# EAGLE library part MCP2200-I/SO (library equinox)
USB 2.0 to UART Protocol Converter with GPIO,20SOIC
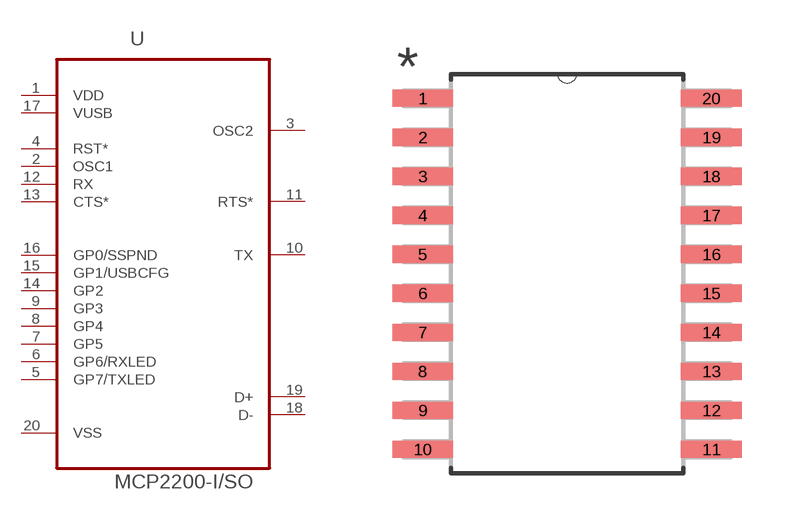
[diagram p6: symbol with the pads of SOIC127P1034X264-20N; footprint SOIC127P1034X264-20N]

Designator prefix -

## MCP2200-I/SO (MPN: MCP2200-I/SO; OC_FARNELL: 1781148; OC_NEWARK: 52R9947; PACKAGE: SOIC-20; SUPPLIER: Microchip)  [SOIC127P1034X264-20N]
1  VDD  pwr
2  OSC1  in
3  OSC2  out
4  RST*  in
5  GP7/TXLED
6  GP6/RXLED
7  GP5
8  GP4
9  GP3
10  TX  out
11  RTS*  out
12  RX  in
13  CTS*  in
14  GP2
15  GP1/USBCFG
16  GP0/SSPND
17  VUSB  pwr
18  D-
19  D+
20  VSS  pwr

## Footprint SOIC127P1034X264-20N (pad centres in mm)
smd 1.981 x 0.559: 1 -4.699,5.715; 2 -4.699,4.445; 3 -4.699,3.175; 4 -4.699,1.905; 5 -4.699,0.635; 6 -4.699,-0.635; 7 -4.699,-1.905; 8 -4.699,-3.175; 9 -4.699,-4.445; 10 -4.699,-5.715; 11 4.699,-5.715; 12 4.699,-4.445; 13 4.699,-3.175; 14 4.699,-1.905; 15 4.699,-0.635; 16 4.699,0.635; 17 4.699,1.905; 18 4.699,3.175; 19 4.699,4.445; 20 4.699,5.715